# EAGLE library part 613036243121 (library Wuerth_Elektronik_eiCan_Pin_&_Socked_Headers_v1.3)
WR-PHD Angled Dual Socket Header, 36 Pins
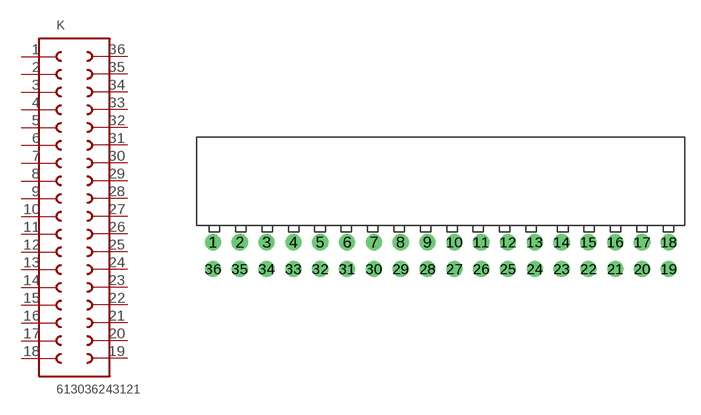
[diagram p181: symbol with the pads of 613036243121; footprint 613036243121]

Designator prefix K

## 613036243121  [613036243121]
1  1  pas
2  2  pas
3  3  pas
4  4  pas
5  5  pas
6  6  pas
7  7  pas
8  8  pas
9  9  pas
10  10  pas
11  11  pas
12  12  pas
13  13  pas
14  14  pas
15  15  pas
16  16  pas
17  17  pas
18  18  pas
19  19  pas
20  20  pas
21  21  pas
22  22  pas
23  23  pas
24  24  pas
25  25  pas
26  26  pas
27  27  pas
28  28  pas
29  29  pas
30  30  pas
31  31  pas
32  32  pas
33  33  pas
34  34  pas
35  35  pas
36  36  pas

## Footprint 613036243121 (pad centres in mm)
WR-PHD Angled Dual Socket Header, 36 Pins
drill 1.02 round: 1 -40.64,0; 2 -38.1,0; 3 -35.56,0; 4 -33.02,0; 5 -30.48,0; 6 -27.94,0; 7 -25.4,0; 8 -22.86,0; 9 -20.32,0; 10 -17.78,0; 11 -15.24,0; 12 -12.7,0; 13 -10.16,0; 14 -7.62,0; 15 -5.08,0; 16 -2.54,0; 17 0,0; 18 2.54,0; 19 2.54,-2.54; 20 0,-2.54; 21 -2.54,-2.54; 22 -5.08,-2.54; 23 -7.62,-2.54; 24 -10.16,-2.54; 25 -12.7,-2.54; 26 -15.24,-2.54; 27 -17.78,-2.54; 28 -20.32,-2.54; 29 -22.86,-2.54; 30 -25.4,-2.54; 31 -27.94,-2.54; 32 -30.48,-2.54; 33 -33.02,-2.54; 34 -35.56,-2.54; 35 -38.1,-2.54; 36 -40.64,-2.54